# Altium schematic symbol library MICROFIT_2WAY.SchLib: 1 symbol
Pins are listed as number, name and electrical type; pins without a type are passive.

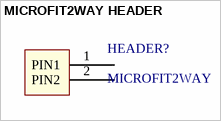
[diagram p0: symbol MICROFIT2WAY HEADER]

## MICROFIT2WAY HEADER
designator HEADER?, comment MICROFIT2WAY
MICROFIT2WAY HEADER
footprint MICROFIT2WAY
pins: 1 PIN1, 2 PIN2 "PIN1"